# EAGLE library part XR-1095P (library exar)
EQUALIZER DISPLAY/FILTER/MULTIPLEXER
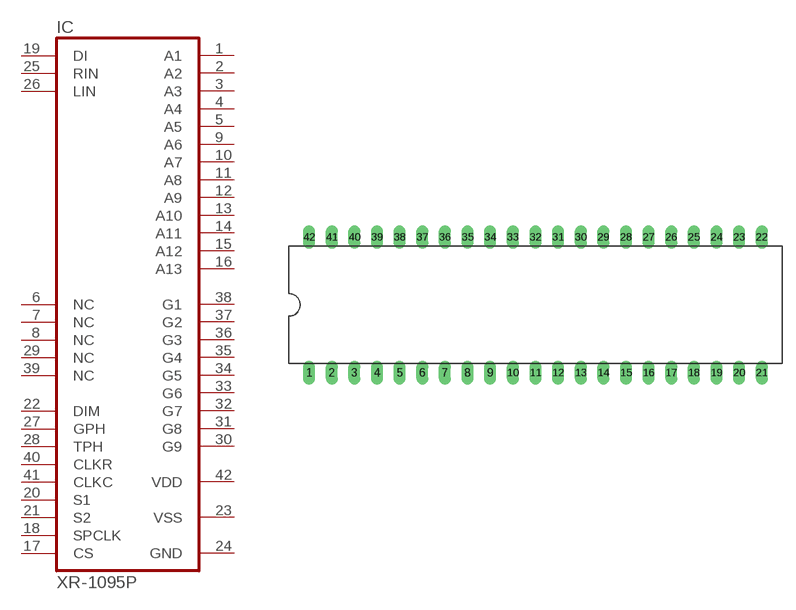
[diagram p68: symbol with the pads of DIL42; footprint DIL42]

Designator prefix IC

## XR-1095P (OC_FARNELL: unknown; OC_NEWARK: unknown)  [DIL42]
1  A1  out
2  A2  out
3  A3  out
4  A4  out
5  A5  out
6  NC  nc
7  NC  nc
8  NC  nc
9  A6  out
10  A7  out
11  A8  out
12  A9  out
13  A10  out
14  A11  out
15  A12  out
16  A13  out
17  CS  in
18  SPCLK  in
19  DI  in
20  S1  in
21  S2  in
22  DIM  in
23  VSS  pwr
24  GND  pwr
25  RIN  in
26  LIN  in
27  GPH  in
28  TPH  in
29  NC  nc
30  G9  out
31  G8  out
32  G7  out
33  G6  out
34  G5  out
35  G4  out
36  G3  out
37  G2  out
38  G1  out
39  NC  nc
40  CLKR  in
41  CLKC  in
42  VDD  pwr

## Footprint DIL42 (pad centres in mm)
Dual In Line Package
drill 0.813 long: 1 -25.4,-7.62; 2 -22.86,-7.62; 3 -20.32,-7.62; 4 -17.78,-7.62; 5 -15.24,-7.62; 6 -12.7,-7.62; 7 -10.16,-7.62; 8 -7.62,-7.62; 9 -5.08,-7.62; 10 -2.54,-7.62; 11 0,-7.62; 12 2.54,-7.62; 13 5.08,-7.62; 14 7.62,-7.62; 15 10.16,-7.62; 16 12.7,-7.62; 17 15.24,-7.62; 18 17.78,-7.62; 19 20.32,-7.62; 20 22.86,-7.62; 21 25.4,-7.62; 22 25.4,7.62; 23 22.86,7.62; 24 20.32,7.62; 25 17.78,7.62; 26 15.24,7.62; 27 12.7,7.62; 28 10.16,7.62; 29 7.62,7.62; 30 5.08,7.62; 31 2.54,7.62; 32 0,7.62; 33 -2.54,7.62; 34 -5.08,7.62; 35 -7.62,7.62; 36 -10.16,7.62; 37 -12.7,7.62; 38 -15.24,7.62; 39 -17.78,7.62; 40 -20.32,7.62; 41 -22.86,7.62; 42 -25.4,7.62